# EAGLE library part HEADER-08P-2R (library deiring-components)
Header 8 Pin 2 Row
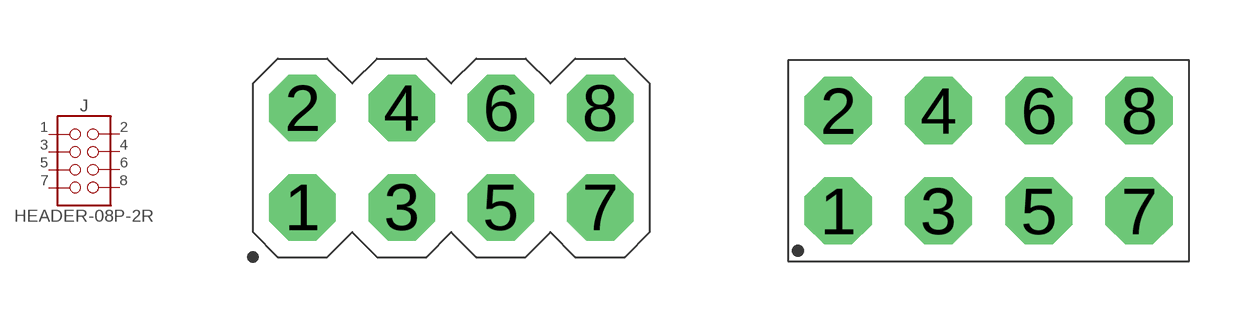
[diagram p1: symbol with the pads of PZ254V-12-8P; footprints PZ254V-12-8P, PM254V-12-08-H85]

Designator prefix J

## HEADER-08P-2R-PZ254V-12-8P (LCSC: C492421; MF: XFCN; MPN: PZ254V-12-8P; VALUE: 8P)  [PZ254V-12-8P]
1  01  pas
2  02  pas
3  03  pas
4  04  pas
5  05  pas
6  06  pas
7  07  pas
8  08  pas

## HEADER-08P-2R-PM254V-12-08-H85 (LCSC: C2834799; MF: XFCN; MPN: PM254V-12-08-H85; VALUE: 8P)  [PM254V-12-08-H85]
Pads as for PZ254V-12-8P

## Footprint PZ254V-12-8P (pad centres in mm)
drill 1 pad 1.7 octagon: 1 -3.81,-1.27; 2 -3.81,1.27; 3 -1.27,-1.27; 4 -1.27,1.27; 5 1.27,-1.27; 6 1.27,1.27; 7 3.81,-1.27; 8 3.81,1.27

## Footprint PM254V-12-08-H85 (pad centres in mm)
drill 1 pad 1.7 octagon: 1 -3.81,-1.27; 2 -3.81,1.27; 3 -1.27,-1.27; 4 -1.27,1.27; 5 1.27,-1.27; 6 1.27,1.27; 7 3.81,-1.27; 8 3.81,1.27